# EAGLE library part IC_ATMEGA32U2-AU (library Bauelemente)
8-bit Microcontroller with ISP Flash and USB Controller
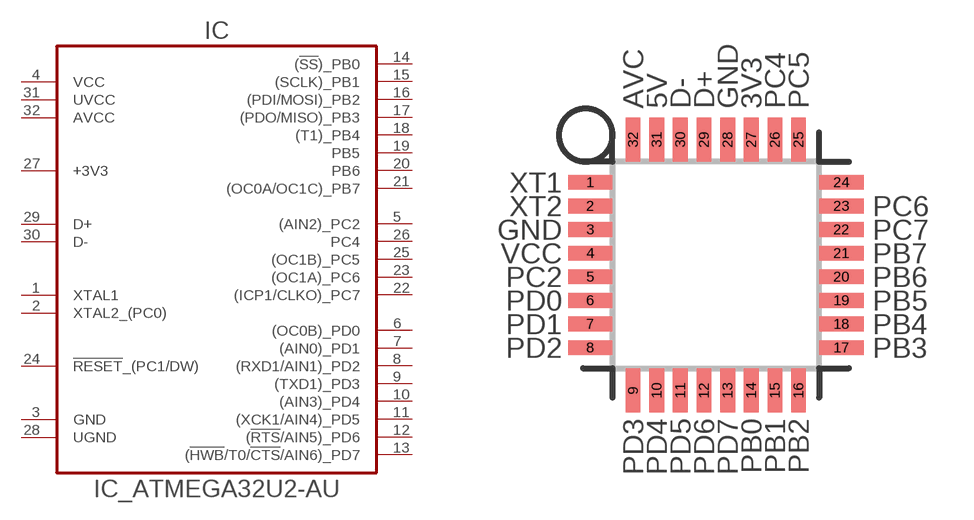
[diagram p0: symbol with the pads of IC_ATMEGA32U2-AU; footprint IC_ATMEGA32U2-AU]

Designator prefix IC

## IC_ATMEGA32U2-AU (MPN: ATMEGA32U2-AU; OC_FARNELL: 1748524; OC_NEWARK: 26R5632; PACKAGE: TQFP-32; SUPPLIER: Atmel)  [IC_ATMEGA32U2-AU]
1  XTAL1  in
2  XTAL2_(PC0)
3  GND  pwr
4  VCC  pwr
5  (AIN2)_PC2
6  (OC0B)_PD0
7  (AIN0)_PD1
8  (RXD1/AIN1)_PD2
9  (TXD1)_PD3
10  (AIN3)_PD4
11  (XCK1/AIN4)_PD5
12  (!RTS!/AIN5)_PD6
13  (!HWB!/T0/!CTS!/AIN6)_PD7
14  (!SS!)_PB0
15  (SCLK)_PB1
16  (PDI/MOSI)_PB2
17  (PDO/MISO)_PB3
18  (T1)_PB4
19  PB5
20  PB6
21  (OC0A/OC1C)_PB7
22  (ICP1/CLKO)_PC7
23  (OC1A)_PC6
24  !RESET!_(PC1/DW)
25  (OC1B)_PC5
26  PC4
27  +3V3  sup
28  UGND  pwr
29  D+
30  D-
31  UVCC  pwr
32  AVCC  pwr

## Footprint IC_ATMEGA32U2-AU (pad centres in mm)
smd 1.5 x 0.5: 1 -4.25,2.8; 2 -4.25,2; 3 -4.25,1.2; 4 -4.25,0.4; 5 -4.25,-0.4; 6 -4.25,-1.2; 7 -4.25,-2; 8 -4.25,-2.8; 17 4.25,-2.8; 18 4.25,-2; 19 4.25,-1.2; 20 4.25,-0.4; 21 4.25,0.4; 22 4.25,1.2; 23 4.25,2; 24 4.25,2.8
smd 0.5 x 1.5: 9 -2.8,-4.25; 10 -2,-4.25; 11 -1.2,-4.25; 12 -0.4,-4.25; 13 0.4,-4.25; 14 1.2,-4.25; 15 2,-4.25; 16 2.8,-4.25; 25 2.8,4.25; 26 2,4.25; 27 1.2,4.25; 28 0.4,4.25; 29 -0.4,4.25; 30 -1.2,4.25; 31 -2,4.25; 32 -2.8,4.25